# Altium schematic symbol library GPS.SchLib: 1 symbol
Pins are listed as number, name and electrical type; pins without a type are passive.

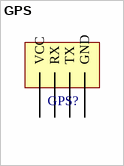
[diagram p0: symbol GPS]

## GPS
designator GPS?
footprint GPS
pins: 12 VCC, 13 RX, 14 TX, 15 GND